# Altium footprint library ACDC.PcbLib: 4 footprints
Each footprint in its own frame and in the unit in brackets; x right, y up, seen from the top. Pads: shape width x height; smd on the part's side, far side on the other; paste and mask are expansions set on the pad; w line width, h text height; cw(c..) or ccw(c..) is an arc to the next point about the centre after c.
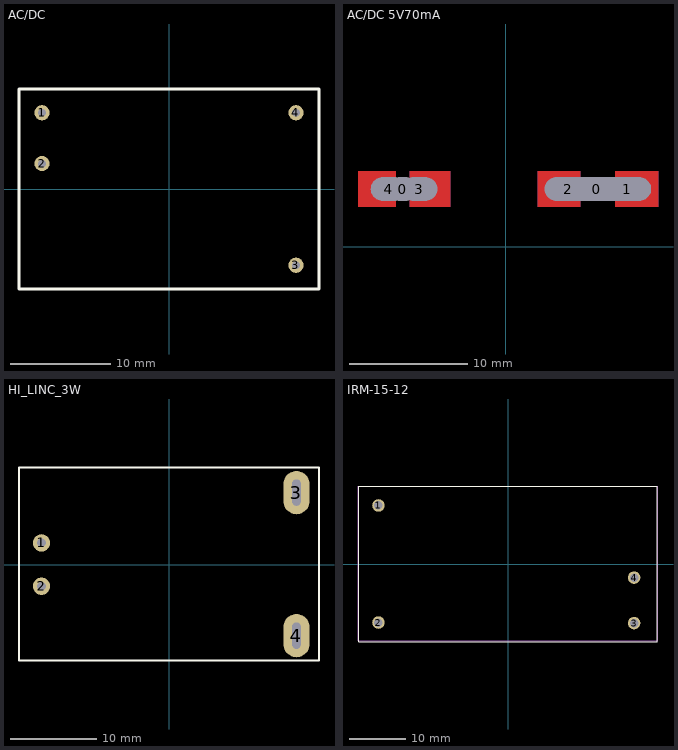
[diagram p0: the footprints below, top view; thin cyan lines are the x and y axes]

## AC/DC [mil]
pads (4):
  round 60 hole 30: 1(-500,300) 2(-500,100) 3(500,-300) 4(500,300)
Top Overlay:
  lines w10: -590.55,-393.7 -590.55,393.7 590.55,393.7 590.55,-393.7 -590.55,-393.7
3D body: height 590.55, standoff 0, extent -600,-400 600,400

## AC/DC 5V70mA [mm]
pads (6):
  round 1.524 hole 2 slot 2.5 at 0 deg unplated: 0(-8.7,4.9)
  round 1.524 hole 2 slot 5 at 0 deg unplated: 0(7.7,4.9)
  round 1.524 hole 2 slot 4 at 0 deg: 1(10.3,4.9) 2(5.3,4.9)
  round 1.524 hole 2 slot 3 at 0 deg: 3(-7.3,4.9) 4(-9.9,4.9)
Top Layer:
  region: -12.5,3.4 -12.5,6.4 -9.3,6.4 -9.3,5.9 -9.3,3.9 -9.3,3.4
  region: -8.1,3.9 -8.1,5.9 -8.1,6.4 -4.7,6.4 -4.7,3.4 -8.1,3.4
  region: 9.3,3.4 9.3,3.9 9.3,5.9 9.3,6.4 12.9,6.4 12.9,3.4
  region: 2.7,3.4 2.7,6.4 6.3,6.4 6.3,5.9 6.3,3.9 6.3,3.4
Bottom Layer:
  region: -12.5,3.4 -12.5,6.4 -9.3,6.4 -9.3,5.9 -9.3,3.9 -9.3,3.4
  region: -8.1,3.9 -8.1,5.9 -8.1,6.4 -4.7,6.4 -4.7,3.4 -8.1,3.4
  region: 9.3,3.4 9.3,3.9 9.3,5.9 9.3,6.4 12.9,6.4 12.9,3.4
  region: 2.7,3.4 2.7,6.4 6.3,6.4 6.3,5.9 6.3,3.9 6.3,3.4
3D body "ac-dc 5v 700ma вертикальный.step": height 16.55, standoff -1.6, extent -11.9,-6.745 11.6,6.745

## HI_LINC_3W [mm]
pads (4):
  round 2 hole 1: 1(-14.7,2.5) 2(-14.7,-2.5)
  oval 3x5 hole 1 slot 3 at 90 deg: 3(14.7,8.3) 4(14.7,-8.2)
Top Overlay:
  lines w0.254: -17.3,-11.074 17.3,-11.074 17.3,11.2 -17.3,11.2 -17.3,-11.074
3D body "hilink_3W.step": height 15.01, standoff -5, extent -17,-10.1 17,10.1

## IRM-15-12 [mm]
pads (4):
  round 2.2 hole 1.5: 1(-22.8,10.3) 2(-22.8,-10.3) 3(22.2,-10.4) 4(22.2,-2.4)
Top Overlay:
  lines w0.2: -26.3,-13.7 26.3,-13.7 26.3,13.7 -26.3,13.7 -26.3,-13.7
Top_ass:
  lines w0.2: -26.4,-13.5 26.4,-13.5 26.4,13.7 -26.4,13.7 -26.4,-13.5
  text ".Designator" at -5.8,-0.2 h1.52
3D body "IRM-15-12.STEP": height 24, standoff -3.5, extent -26.2,-13.6 26.2,13.6